# Altium schematic symbol library SIMBOLS_PASSIUS.SchLib: 32 symbols
Pins are listed as number, name and electrical type; pins without a type are passive.

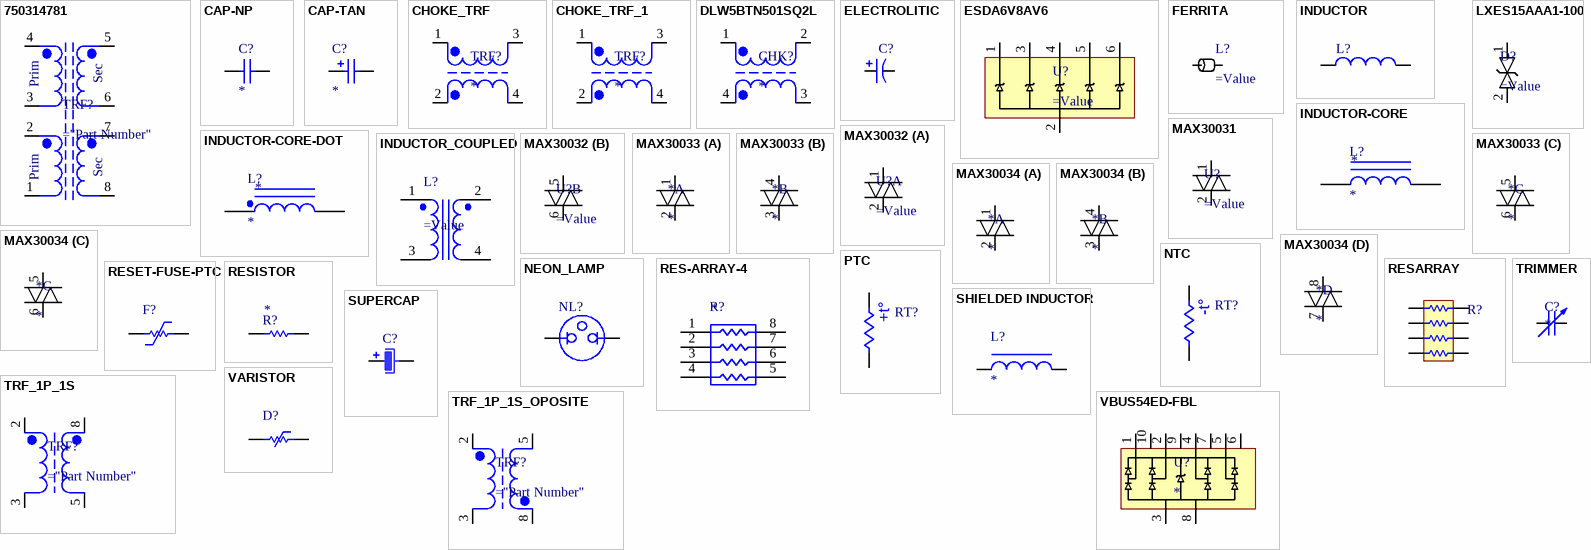
[diagram p0: symbols 750314781 to VBUS54ED-FBL]

## 750314781
designator TRF?
FlyBack Trafo WURTH
pins: 1, 2, 3, 4, 5, 6, 7, 8
text: Sec; Prim

## CAP-NP
designator C?
CAP-NP; Voltage: *; Value: *
pins: 1, 2

## CAP-TAN
designator C?
CAP-TAN; Voltage: *; Value: *
pins: 1, 2
1 alternate drawing of the same symbol

## CHOKE_TRF
designator TRF?
CHOKE_TRF
pins: 1, 2, 3, 4

## CHOKE_TRF_1
designator TRF?
CHOKE_TRF
pins: 1, 2, 3, 4

## DLW5BTN501SQ2L
designator CHK?
DLW5BTN501SQ2L
footprint DLW5BTN501SQ2L (Footprint not found)
pins: 1, 2, 3, 4

## ELECTROLITIC
designator C?  (value not drawn)
ELECTROLITIC; Value: *
pins: 1, 2

## ESDA6V8AV6
designator U?
Transient Voltage Suppressors for ESD Protection
pins: 1, 2 GND, 3, 4, 5, 6

## FERRITA
designator L?
FERRITA; Impedance: *; Frequency: *; Current: *
pins: 1, 2

## INDUCTOR
designator L?
INDUCTOR; PackageDescription: MPZ2012S331A
pins: 1, 2

## INDUCTOR-CORE
designator L?
INDUCTOR-CORE; Published: 24-Mar-1999; LatestRevisionDate: 17-Jul-2002; LatestRevisionNote: Re-released for DXP Platform.; PackageReference: AXIAL-0.9; Publisher: Altium Limited; PackageDescription: Axial Device, Thru-Hole; 2 Leads; 0.9 in Pin Spacing; Value: *
pins: 1, 2

## INDUCTOR-CORE-DOT
designator L?
INDUCTOR-CORE-DOT; Published: 24-Mar-1999; LatestRevisionDate: 17-Jul-2002; LatestRevisionNote: Re-released for DXP Platform.; PackageReference: DIODE_SMC; Publisher: Altium Limited; PackageDescription: Diode; 2 Leads; Value: *
pins: 1, 2

## INDUCTOR_COUPLED
designator L?
pins: 1, 2, 3, 4

## LXES15AAA1-100
designator D?
pins: 1 VIN4, 2 VIN5

## MAX30031
designator U?
pins: 1 VIN1, 2 GND

## MAX30032
designator U?
part A pins: 1 VIN1, 2 GND
part B pins: 5 VIN2, 6 GND

## MAX30033
designator *
part A pins: 1 VIN1, 2 GND
part B pins: 3 GND, 4 VIN2
part C pins: 5 VIN3, 6 GND

## MAX30034
designator *
part A pins: 1 VIN1, 2 GND
part B pins: 3 GND, 4 VIN2
part C pins: 5 VIN3, 6 GND
part D pins: 7 GND, 8 VIN4

## NEON_LAMP
designator NL?
NEON_LAMP
pins: 1, 2

## NTC
designator RT?
NTC; LatestRevisionNote: epcos; PackageDescription: B57871S0103F001
pins: 1, 2
text: -t°

## PTC
designator RT?
PTC; LatestRevisionNote: epcos; PackageDescription: B57871S0103F001
pins: 1, 2
text: +t°

## RES-ARRAY-4
designator R?
RES-ARRAY-4; Published: 24-Mar-1999; LatestRevisionDate: 29-May-2009; LatestRevisionNote: IPC-7351 Footprint Added.; PackageReference: SO-16; Publisher: Altium Limited; PackageDescription: 16-Pin Small Outline Integrated Circuit 1.27 mm Pitch; Code_JEDEC: MS-012-AC; Code_IPC: SOIC127P600-16; Value: *
pins: 1, 2, 3, 4, 5, 6, 7, 8

## RESARRAY
designator R?
RESARRAY
pins: 1, 2, 3, 4, 5, 6, 7, 8

## RESET-FUSE-PTC
designator F?, comment 1.1A  (value not drawn)
RESET-FUSE-PTC; Value: 1.1A
pins: 1, 2

## RESISTOR
designator R?
RESISTOR; Published: 8-Jun-2000; LatestRevisionDate: 17-Jul-2002; LatestRevisionNote: Re-released for DXP Platform.; PackageReference: AXIAL-0.5; Publisher: Altium Limited; PackageDescription: Axial Device, Thru-Hole; 2 Leads; 0.5 in Pin Spacing; Value: *
pins: 1, 2

## SHIELDED INDUCTOR
designator L?
SHIELDED INDUCTOR; tolerance: 30%; Isat: 3A8; Published: 24-Mar-1999; LatestRevisionDate: 17-Jul-2002; LatestRevisionNote: Re-released for DXP Platform.; PackageReference: SRU1038; Publisher: Altium Limited; PackageDescription: Axial Device, Thru-Hole; 2 Leads; 0.9 in Pin Spacing; Supplier 1: Farnell; Value: *; Supplier Part Number 1: 1612718
pins: 1, 2

## SUPERCAP
designator C?
SUPERCAP
pins: 1, 2

## TRF_1P_1S
designator TRF?
FlyBack Trafo
pins: 2, 3, 5, 8

## TRF_1P_1S_OPOSITE
designator TRF?
FlyBack Trafo
pins: 2, 3, 5, 8

## TRIMMER
designator C?
TRIMMER
pins: 1, 2

## VARISTOR
designator D?, comment 1.1A  (value not drawn)
VARISTOR; Value: 1.1A
pins: 1, 2

## VBUS54ED-FBL
designator U?
pins: 1, 2, 3 GND, 4, 5, 6, 7, 8 GND, 9, 10